# Altium schematic symbol library NCP1117DT50RKG.SchLib: 2 symbols
Pins are listed as number, name and electrical type; pins without a type are passive.

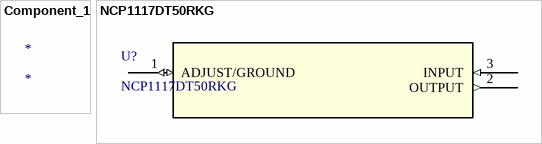
[diagram p0: symbols Component_1 to NCP1117DT50RKG]

## Component_1
designator *
footprint DPAK-3_ONS

## NCP1117DT50RKG
designator U?
No Description Available; Mfr_Name: onsemi; Copyright: Copyright (C) 2022 Ultra Librarian. All rights reserved.; Manufacturer_Part_Number: NCP1117DT50RKG; Digi-Key_Part_Number_1: 2156-NCP1117DT50RKG-OS-ND; Digi-Key_Part_Number_2: =NCP1117DT50RKG; Digi-Key_Part_Number_3: NCP1117DT50RKGOSCT-ND; Digi-Key_Part_Number_4: NCP1117DT50RKGOSDKR-ND; Digi-Key_Part_Number_5: NCP1117DT50RKGOSTR-ND; RefDes: RefDes; Type: DEV
footprint DPAK-3_ONS
pins: 1 ADJUST/GROUND (io), 2 OUTPUT (out), 3 INPUT (in)